# Altium schematic symbol library LED - Indication - Discrete 0603.SchLib: 32 symbols
Pins are listed as number, name and electrical type; pins without a type are passive.

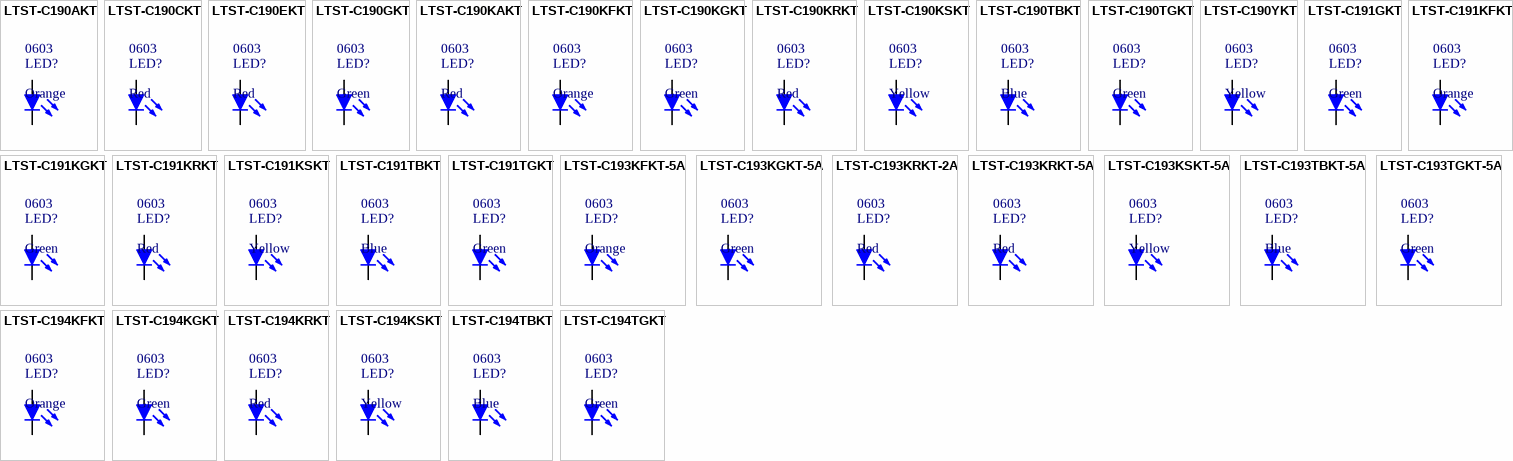
[diagram p0: symbols LTST-C190AKT to LTST-C194TGKT]

## LTST-C190AKT
designator LED?, comment Orange  Package: 0603
LED ORANGE CLEAR 0603 SMD; Manufacturer: Lite-On Inc.; Manufacturer Part Number: LTST-C190AKT; Lens Color: Colorless; Millicandela Rating: 2mcd; Lens Style/Size: Rectangle with Flat Top, 1.10mm x 0.80mm; Voltage - Forward (Vf) (Typ): 2.1V; Current - Test: 10mA; Viewing Angle: 130°; Wavelength - Dominant: 602nm; Wavelength - Peak: 610nm; Supplier 1: Digi-Key; Supplier Part Number 1: 160-1180-1-ND; RoHS: RoHS Compliant; Category: Optoelectronics; Stock 1: 66792; Pricing 1: 1=0.29, 10=0.211, 25=0.1556, 100=0.1111, 250=0.07556, 500=0.06666, 1000=0.05222 (USD); Packaging: Cut Tape (CT); Part Status: Active; Color: Orange; Lens Transparency: Clear; Mounting Type: Surface Mount; Features: -; Supplier Device Package: -; Size / Dimension: 1.60mm L x 0.80mm W; Height (Max): 0.80mm; ComponentLink1URL: http://media.digikey.com/pdf/Data%20Sheets/Lite-On%20PDFs/LTST-C190AKT.pdf; ComponentLink1Description: http://media.digikey.com/pdf/Data%20Sheets/Lite-On%20PDFs/LTST-C190AKT.pdf
footprint Led 0603 - orange (Led SMD 0603)
pins: 1 A, 2 K

## LTST-C190CKT
designator LED?, comment Red  Package: 0603
LED RED CLEAR 0603 SMD; Manufacturer: Lite-On Inc.; Manufacturer Part Number: LTST-C190CKT; Lens Color: Colorless; Millicandela Rating: 10mcd; Lens Style/Size: Rectangle with Flat Top, 1.10mm x 0.80mm; Voltage - Forward (Vf) (Typ): 1.8V; Current - Test: 10mA; Viewing Angle: 130°; Wavelength - Dominant: 638nm; Wavelength - Peak: 660nm; Supplier 1: Digi-Key; Supplier Part Number 1: 160-1181-1-ND; RoHS: RoHS Compliant; Category: Optoelectronics; Stock 1: 897957; Pricing 1: 1=0.33, 10=0.239, 25=0.1764, 100=0.126, 250=0.08564, 500=0.07558, 1000=0.0592 (USD); Packaging: Cut Tape (CT); Part Status: Active; Color: Red; Lens Transparency: Clear; Mounting Type: Surface Mount; Features: -; Supplier Device Package: -; Size / Dimension: 1.60mm L x 0.80mm W; Height (Max): 0.80mm; ComponentLink1URL: http://media.digikey.com/pdf/Data%20Sheets/Lite-On%20PDFs/LTST-C190CKT.pdf; ComponentLink1Description: http://media.digikey.com/pdf/Data%20Sheets/Lite-On%20PDFs/LTST-C190CKT.pdf
footprint Led 0603 - red (Led SMD 0603)
pins: 1 A, 2 K

## LTST-C190EKT
designator LED?, comment Red  Package: 0603
LED RED CLEAR 0603 SMD; Manufacturer: Lite-On Inc.; Manufacturer Part Number: LTST-C190EKT; Lens Color: Colorless; Millicandela Rating: 2mcd; Lens Style/Size: Rectangle with Flat Top, 1.10mm x 0.80mm; Voltage - Forward (Vf) (Typ): 2V; Current - Test: 10mA; Viewing Angle: 130°; Wavelength - Dominant: 621nm; Wavelength - Peak: 630nm; Supplier 1: Digi-Key; Supplier Part Number 1: 160-1182-1-ND; RoHS: RoHS Compliant; Category: Optoelectronics; Stock 1: 73458; Pricing 1: 1=0.29, 10=0.211, 25=0.1556, 100=0.1111, 250=0.07556, 500=0.06666, 1000=0.05222 (USD); Packaging: Cut Tape (CT); Part Status: Active; Color: Red; Lens Transparency: Clear; Mounting Type: Surface Mount; Features: -; Supplier Device Package: -; Size / Dimension: 1.60mm L x 0.80mm W; Height (Max): 0.80mm; ComponentLink1URL: http://media.digikey.com/pdf/Data%20Sheets/Lite-On%20PDFs/LTST-C190EKT.pdf; ComponentLink1Description: http://media.digikey.com/pdf/Data%20Sheets/Lite-On%20PDFs/LTST-C190EKT.pdf
footprint Led 0603 - red (Led SMD 0603)
pins: 1 A, 2 K

## LTST-C190GKT
designator LED?, comment Green  Package: 0603
LED GREEN CLEAR 0603 SMD; Manufacturer: Lite-On Inc.; Manufacturer Part Number: LTST-C190GKT; Lens Color: Colorless; Millicandela Rating: 6mcd; Lens Style/Size: Rectangle with Flat Top, 1.10mm x 0.80mm; Voltage - Forward (Vf) (Typ): 2.1V; Current - Test: 10mA; Viewing Angle: 130°; Wavelength - Dominant: 569nm; Wavelength - Peak: 565nm; Supplier 1: Digi-Key; Supplier Part Number 1: 160-1183-1-ND; RoHS: RoHS Compliant; Category: Optoelectronics; Stock 1: 775799; Pricing 1: 1=0.27, 10=0.196, 25=0.1448, 100=0.1034, 250=0.07032, 500=0.06204, 1000=0.0486 (USD); Packaging: Cut Tape (CT); Part Status: Active; Color: Green; Lens Transparency: Clear; Mounting Type: Surface Mount; Features: -; Supplier Device Package: -; Size / Dimension: 1.60mm L x 0.80mm W; Height (Max): 0.80mm; ComponentLink1URL: http://media.digikey.com/pdf/Data%20Sheets/Lite-On%20PDFs/LTST-C190GKT.pdf; ComponentLink1Description: http://media.digikey.com/pdf/Data%20Sheets/Lite-On%20PDFs/LTST-C190GKT.pdf
footprint Led 0603 - green (Led SMD 0603)
pins: 1 A, 2 K

## LTST-C190KAKT
designator LED?, comment Red  Package: 0603
LED RED CLEAR 0603 SMD; Manufacturer: Lite-On Inc.; Manufacturer Part Number: LTST-C190KAKT; Lens Color: Colorless; Millicandela Rating: 80mcd; Lens Style/Size: Rectangle with Flat Top, 1.06mm x 0.80mm; Voltage - Forward (Vf) (Typ): 2V; Current - Test: 20mA; Viewing Angle: 130°; Wavelength - Dominant: 615nm; Wavelength - Peak: 621nm; Supplier 1: Digi-Key; Supplier Part Number 1: 160-1433-1-ND; RoHS: RoHS Compliant; Category: Optoelectronics; Stock 1: 46405; Pricing 1: 1=0.41, 10=0.296, 25=0.2268, 100=0.148, 250=0.10852, 500=0.0921, 1000=0.07565 (USD); Packaging: Cut Tape (CT); Part Status: Active; Color: Red; Lens Transparency: Clear; Mounting Type: Surface Mount; Features: -; Supplier Device Package: Chip LED; Size / Dimension: 1.60mm L x 0.80mm W; Height (Max): 0.80mm; ComponentLink1URL: http://media.digikey.com/pdf/Data%20Sheets/Lite-On%20PDFs/LTST-C150,170,190KxKT.pdf; ComponentLink1Description: http://media.digikey.com/pdf/Data%20Sheets/Lite-On%20PDFs/LTST-C150,170,190KxKT.pdf
footprint Led 0603 - red (Led SMD 0603)
pins: 1 A, 2 K

## LTST-C190KFKT
designator LED?, comment Orange  Package: 0603
LED ORANGE CLEAR 0603 SMD; Manufacturer: Lite-On Inc.; Manufacturer Part Number: LTST-C190KFKT; Lens Color: Colorless; Millicandela Rating: 90mcd; Lens Style/Size: Rectangle with Flat Top, 1.10mm x 0.80mm; Voltage - Forward (Vf) (Typ): 2V; Current - Test: 20mA; Viewing Angle: 130°; Wavelength - Dominant: 605nm; Wavelength - Peak: 611nm; Supplier 1: Digi-Key; Supplier Part Number 1: 160-1434-1-ND; RoHS: RoHS Compliant; Category: Optoelectronics; Stock 1: 140692; Pricing 1: 1=0.25, 10=0.183, 25=0.1348, 100=0.0963, 250=0.06544, 500=0.05776, 1000=0.04524 (USD); Packaging: Cut Tape (CT); Part Status: Active; Color: Orange; Lens Transparency: Clear; Mounting Type: Surface Mount; Features: -; Size / Dimension: 1.60mm L x 0.80mm W; Height (Max): 0.80mm; ComponentLink1URL: http://optoelectronics.liteon.com/upload/download/DS-22-99-0186/S_110_LTST-C190KFKT.pdf; ComponentLink1Description: http://optoelectronics.liteon.com/upload/download/DS-22-99-0186/S_110_LTST-C190KFKT.pdf
footprint Led 0603 - orange (Led SMD 0603)
pins: 1 A, 2 K

## LTST-C190KGKT
designator LED?, comment Green  Package: 0603
LED GREEN CLEAR 0603 SMD; Manufacturer: Lite-On Inc.; Manufacturer Part Number: LTST-C190KGKT; Lens Color: Colorless; Millicandela Rating: 35mcd; Lens Style/Size: Rectangle with Flat Top, 1.10mm x 0.80mm; Voltage - Forward (Vf) (Typ): 2V; Current - Test: 20mA; Viewing Angle: 130°; Wavelength - Dominant: 571nm; Wavelength - Peak: 574nm; Supplier 1: Digi-Key; Supplier Part Number 1: 160-1435-1-ND; RoHS: RoHS Compliant; Category: Optoelectronics; Stock 1: 1137633; Pricing 1: 1=0.27, 10=0.196, 25=0.1448, 100=0.1034, 250=0.07032, 500=0.06204, 1000=0.0486 (USD); Packaging: Cut Tape (CT); Part Status: Active; Color: Green; Lens Transparency: Clear; Mounting Type: Surface Mount; Features: -; Size / Dimension: 1.60mm L x 0.80mm W; Height (Max): 0.80mm; ComponentLink1URL: http://optoelectronics.liteon.com/upload/download/DS22-2000-074/S_110_LTST-C190KGKT.pdf; ComponentLink1Description: http://optoelectronics.liteon.com/upload/download/DS22-2000-074/S_110_LTST-C190KGKT.pdf
footprint Led 0603 - green (Led SMD 0603)
pins: 1 A, 2 K

## LTST-C190KRKT
designator LED?, comment Red  Package: 0603
LED RED CLEAR 0603 SMD; Manufacturer: Lite-On Inc.; Manufacturer Part Number: LTST-C190KRKT; Lens Color: Colorless; Millicandela Rating: 99mcd; Lens Style/Size: Rectangle with Flat Top, 1.10mm x 0.80mm; Voltage - Forward (Vf) (Typ): 2V; Current - Test: 20mA; Viewing Angle: 130°; Wavelength - Dominant: 631nm; Wavelength - Peak: 639nm; Supplier 1: Digi-Key; Supplier Part Number 1: 160-1436-1-ND; RoHS: RoHS Compliant; Category: Optoelectronics; Stock 1: 498710; Pricing 1: 1=0.27, 10=0.196, 25=0.1448, 100=0.1034, 250=0.07032, 500=0.06204, 1000=0.0486 (USD); Packaging: Cut Tape (CT); Part Status: Active; Color: Red; Lens Transparency: Clear; Mounting Type: Surface Mount; Features: -; Size / Dimension: 1.60mm L x 0.80mm W; Height (Max): 0.80mm; ComponentLink1URL: http://optoelectronics.liteon.com/upload/download/DS-22-99-0151/S_110_LTST-C190KRKT.pdf; ComponentLink1Description: http://optoelectronics.liteon.com/upload/download/DS-22-99-0151/S_110_LTST-C190KRKT.pdf
footprint Led 0603 - red (Led SMD 0603)
pins: 1 A, 2 K

## LTST-C190KSKT
designator LED?, comment Yellow  Package: 0603
LED YELLOW CLEAR 0603 SMD; Manufacturer: Lite-On Inc.; Manufacturer Part Number: LTST-C190KSKT; Lens Color: Colorless; Millicandela Rating: 104mcd; Lens Style/Size: Rectangle with Flat Top, 1.10mm x 0.80mm; Voltage - Forward (Vf) (Typ): 2.1V; Current - Test: 20mA; Viewing Angle: 130°; Wavelength - Dominant: 591nm; Wavelength - Peak: 588nm; Supplier 1: Digi-Key; Supplier Part Number 1: 160-1437-1-ND; RoHS: RoHS Compliant; Category: Optoelectronics; Stock 1: 231453; Pricing 1: 1=0.29, 10=0.211, 25=0.1556, 100=0.1111, 250=0.07556, 500=0.06666, 1000=0.05222 (USD); Packaging: Cut Tape (CT); Part Status: Active; Color: Yellow; Lens Transparency: Clear; Mounting Type: Surface Mount; Features: -; Size / Dimension: 1.60mm L x 0.80mm W; Height (Max): 0.80mm; ComponentLink1URL: http://optoelectronics.liteon.com/upload/download/DS-22-99-0189/S_110_LTST-C190KSKT.pdf; ComponentLink1Description: http://optoelectronics.liteon.com/upload/download/DS-22-99-0189/S_110_LTST-C190KSKT.pdf
footprint Led 0603 - yellow (Led SMD 0603)
pins: 1 A, 2 K

## LTST-C190TBKT
designator LED?, comment Blue  Package: 0603
LED BLUE CLEAR 0603 SMD; Manufacturer: Lite-On Inc.; Manufacturer Part Number: LTST-C190TBKT; Lens Color: Colorless; Millicandela Rating: 104mcd; Lens Style/Size: Rectangle with Flat Top, 1.10mm x 0.80mm; Voltage - Forward (Vf) (Typ): 3.3V; Current - Test: 20mA; Viewing Angle: 130°; Wavelength - Dominant: 470nm; Wavelength - Peak: 468nm; Supplier 1: Digi-Key; Supplier Part Number 1: 160-1646-1-ND; RoHS: RoHS Compliant; Category: Optoelectronics; Stock 1: 280970; Pricing 1: 1=0.54, 10=0.392, 25=0.3004, 100=0.196, 250=0.14376, 500=0.12196, 1000=0.10019 (USD); Packaging: Cut Tape (CT); Part Status: Active; Lens Transparency: Clear; Mounting Type: Surface Mount; Features: -; Supplier Device Package: Chip LED; Size / Dimension: 1.60mm L x 0.80mm W; Height (Max): 0.90mm; ComponentLink1URL: http://optoelectronics.liteon.com/upload/download/DS-22-99-0224/S_110_LTST-C190TBKT(0630).pdf; ComponentLink1Description: http://optoelectronics.liteon.com/upload/download/DS-22-99-0224/S_110_LTST-C190TBKT(0630).pdf; Color: Blue
footprint Led 0603 - blue (Led SMD 0603)
pins: 1 A, 2 K

## LTST-C190TGKT
designator LED?, comment Green  Package: 0603
LED GREEN CLEAR 0603 SMD; Manufacturer: Lite-On Inc.; Manufacturer Part Number: LTST-C190TGKT; Lens Color: Colorless; Millicandela Rating: 260.5mcd; Lens Style/Size: Rectangle with Flat Top, 1.10mm x 0.80mm; Voltage - Forward (Vf) (Typ): 3.2V; Current - Test: 20mA; Viewing Angle: 130°; Wavelength - Dominant: 525nm; Wavelength - Peak: 530nm; Supplier 1: Digi-Key; Supplier Part Number 1: 160-2019-1-ND; RoHS: RoHS Compliant; Category: Optoelectronics; Stock 1: 21908; Pricing 1: 1=0.6, 10=0.436, 25=0.3556, 100=0.2844, 250=0.23996, 500=0.20442, 1000=0.15998 (USD); Packaging: Cut Tape (CT); Part Status: Active; Color: Green; Lens Transparency: Clear; Mounting Type: Surface Mount; Features: -; Supplier Device Package: -; Size / Dimension: 1.60mm L x 0.80mm W; Height (Max): 0.90mm; ComponentLink1URL: http://optoelectronics.liteon.com/upload/download/DS22-2000-032/S_110_LTST-C190TGKT.pdf; ComponentLink1Description: http://optoelectronics.liteon.com/upload/download/DS22-2000-032/S_110_LTST-C190TGKT.pdf
footprint Led 0603 - green (Led SMD 0603)
pins: 1 A, 2 K

## LTST-C190YKT
designator LED?, comment Yellow  Package: 0603
LED YELLOW CLEAR 0603 SMD; Manufacturer: Lite-On Inc.; Manufacturer Part Number: LTST-C190YKT; Lens Color: Colorless; Millicandela Rating: 6mcd; Lens Style/Size: Rectangle with Flat Top, 1.06mm x 0.80mm; Voltage - Forward (Vf) (Typ): 2.1V; Current - Test: 10mA; Viewing Angle: 130°; Wavelength - Dominant: 588nm; Wavelength - Peak: 585nm; Supplier 1: Digi-Key; Supplier Part Number 1: 160-1184-1-ND; RoHS: RoHS Compliant; Category: Optoelectronics; Stock 1: 70346; Pricing 1: 1=0.29, 10=0.211, 25=0.1556, 100=0.1111, 250=0.07556, 500=0.06666, 1000=0.05222 (USD); Packaging: Cut Tape (CT); Part Status: Active; Color: Yellow; Lens Transparency: Clear; Mounting Type: Surface Mount; Features: -; Supplier Device Package: -; Size / Dimension: 1.60mm L x 0.80mm W; Height (Max): 0.80mm; ComponentLink1URL: http://media.digikey.com/pdf/Data%20Sheets/Lite-On%20PDFs/LTST-C190YKT.pdf; ComponentLink1Description: http://media.digikey.com/pdf/Data%20Sheets/Lite-On%20PDFs/LTST-C190YKT.pdf
footprint Led 0603 - yellow (Led SMD 0603)
pins: 1 A, 2 K

## LTST-C191GKT
designator LED?, comment Green  Package: 0603
LED GREEN CLEAR 0603 SMD; Manufacturer: Lite-On Inc.; Manufacturer Part Number: LTST-C191GKT; Lens Color: Colorless; Millicandela Rating: 12mcd; Lens Style/Size: Rectangle with Flat Top, 1.10mm x 0.80mm; Voltage - Forward (Vf) (Typ): 2.1V; Current - Test: 20mA; Viewing Angle: 130°; Wavelength - Dominant: 569nm; Wavelength - Peak: 565nm; Supplier 1: Digi-Key; Supplier Part Number 1: 160-1443-1-ND; RoHS: RoHS Compliant; Category: Optoelectronics; Stock 1: 104656; Pricing 1: 1=0.35, 10=0.253, 25=0.1864, 100=0.1331, 250=0.09052, 500=0.07986, 1000=0.06256, 2500=0.06123 (USD); Packaging: Cut Tape (CT); Part Status: Active; Color: Green; Lens Transparency: Clear; Mounting Type: Surface Mount; Features: -; Supplier Device Package: Chip LED; Size / Dimension: 1.60mm L x 0.80mm W; Height (Max): 0.55mm; ComponentLink1URL: http://media.digikey.com/pdf/Data%20Sheets/Lite-On%20PDFs/LTST-C191GKT.pdf; ComponentLink1Description: http://media.digikey.com/pdf/Data%20Sheets/Lite-On%20PDFs/LTST-C191GKT.pdf
footprint Led 0603 - green (Led SMD 0603)
pins: 1 A, 2 K

## LTST-C191KFKT
designator LED?, comment Orange  Package: 0603
LED ORANGE CLEAR 0603 SMD; Manufacturer: Lite-On Inc.; Manufacturer Part Number: LTST-C191KFKT; Lens Color: Colorless; Millicandela Rating: 90mcd; Lens Style/Size: Rectangle with Flat Top, 1.10mm x 0.80mm; Voltage - Forward (Vf) (Typ): 2V; Current - Test: 20mA; Viewing Angle: 130°; Wavelength - Dominant: 605nm; Wavelength - Peak: 611nm; Supplier 1: Digi-Key; Supplier Part Number 1: 160-1445-1-ND; RoHS: RoHS Compliant; Category: Optoelectronics; Stock 1: 161318; Pricing 1: 1=0.27, 10=0.196, 25=0.1448, 100=0.1034, 250=0.07032, 500=0.06204, 1000=0.0486, 2500=0.04756 (USD); Packaging: Cut Tape (CT); Part Status: Active; Color: Orange; Lens Transparency: Clear; Mounting Type: Surface Mount; Features: -; Size / Dimension: 1.60mm L x 0.80mm W; Height (Max): 0.55mm; ComponentLink1URL: http://optoelectronics.liteon.com/upload/download/DS22-2000-222/S_110_LTST-C191KFKT.pdf; ComponentLink1Description: http://optoelectronics.liteon.com/upload/download/DS22-2000-222/S_110_LTST-C191KFKT.pdf
footprint Led 0603 - orange (Led SMD 0603)
pins: 1 A, 2 K

## LTST-C191KGKT
designator LED?, comment Green  Package: 0603
LED GREEN CLEAR 0603 SMD; Manufacturer: Lite-On Inc.; Manufacturer Part Number: LTST-C191KGKT; Lens Color: Colorless; Millicandela Rating: 35mcd; Lens Style/Size: Rectangle with Flat Top, 1.10mm x 0.80mm; Voltage - Forward (Vf) (Typ): 2V; Current - Test: 20mA; Viewing Angle: 130°; Wavelength - Dominant: 571nm; Wavelength - Peak: 574nm; Supplier 1: Digi-Key; Supplier Part Number 1: 160-1446-1-ND; RoHS: RoHS Compliant; Category: Optoelectronics; Stock 1: 1234324; Pricing 1: 1=0.29, 10=0.211, 25=0.1556, 100=0.1111, 250=0.07556, 500=0.06666, 1000=0.05222, 2500=0.05111 (USD); Packaging: Cut Tape (CT); Part Status: Active; Color: Green; Lens Transparency: Clear; Mounting Type: Surface Mount; Features: -; Size / Dimension: 1.60mm L x 0.80mm W; Height (Max): 0.55mm; ComponentLink1URL: http://optoelectronics.liteon.com/upload/download/DS22-2000-228/S_110_LTST-C191KGKT.pdf; ComponentLink1Description: http://optoelectronics.liteon.com/upload/download/DS22-2000-228/S_110_LTST-C191KGKT.pdf
footprint Led 0603 - green (Led SMD 0603)
pins: 1 A, 2 K

## LTST-C191KRKT
designator LED?, comment Red  Package: 0603
LED RED CLEAR 0603 SMD; Manufacturer: Lite-On Inc.; Manufacturer Part Number: LTST-C191KRKT; Lens Color: Colorless; Millicandela Rating: 54mcd; Lens Style/Size: Rectangle with Flat Top, 1.10mm x 0.80mm; Voltage - Forward (Vf) (Typ): 2V; Current - Test: 20mA; Viewing Angle: 130°; Wavelength - Dominant: 631nm; Wavelength - Peak: 639nm; Supplier 1: Digi-Key; Supplier Part Number 1: 160-1447-1-ND; RoHS: RoHS Compliant; Category: Optoelectronics; Stock 1: 549727; Pricing 1: 1=0.29, 10=0.211, 25=0.1556, 100=0.1111, 250=0.07556, 500=0.06666, 1000=0.05222, 2500=0.05111 (USD); Packaging: Cut Tape (CT); Part Status: Active; Color: Red; Lens Transparency: Clear; Mounting Type: Surface Mount; Features: -; Size / Dimension: 1.60mm L x 0.80mm W; Height (Max): 0.65mm; ComponentLink1URL: http://optoelectronics.liteon.com/upload/download/DS22-2000-223/S_110_LTST-C191KRKT.pdf; ComponentLink1Description: http://optoelectronics.liteon.com/upload/download/DS22-2000-223/S_110_LTST-C191KRKT.pdf
footprint Led 0603 - red (Led SMD 0603)
pins: 1 A, 2 K

## LTST-C191KSKT
designator LED?, comment Yellow  Package: 0603
LED YELLOW CLEAR 0603 SMD; Manufacturer: Lite-On Inc.; Manufacturer Part Number: LTST-C191KSKT; Lens Color: Colorless; Millicandela Rating: 104mcd; Lens Style/Size: Rectangle with Flat Top, 1.10mm x 0.80mm; Voltage - Forward (Vf) (Typ): 2.1V; Current - Test: 20mA; Viewing Angle: 130°; Wavelength - Dominant: 591nm; Wavelength - Peak: 588nm; Supplier 1: Digi-Key; Supplier Part Number 1: 160-1448-1-ND; RoHS: RoHS Compliant; Category: Optoelectronics; Stock 1: 519870; Pricing 1: 1=0.31, 10=0.225, 25=0.1656, 100=0.1183, 250=0.0804, 500=0.07096, 1000=0.05558, 2500=0.0544 (USD); Packaging: Cut Tape (CT); Part Status: Active; Color: Yellow; Lens Transparency: Clear; Mounting Type: Surface Mount; Features: -; Size / Dimension: 1.60mm L x 0.80mm W; Height (Max): 0.55mm; ComponentLink1URL: http://optoelectronics.liteon.com/upload/download/DS22-2000-224/S_110_LTST-C191KSKT.pdf; ComponentLink1Description: http://optoelectronics.liteon.com/upload/download/DS22-2000-224/S_110_LTST-C191KSKT.pdf
footprint Led 0603 - yellow (Led SMD 0603)
pins: 1 A, 2 K

## LTST-C191TBKT
designator LED?, comment Blue  Package: 0603
LED BLUE CLEAR 0603 SMD; Manufacturer: Lite-On Inc.; Manufacturer Part Number: LTST-C191TBKT; Lens Color: Colorless; Millicandela Rating: 104mcd; Lens Style/Size: Rectangle with Flat Top, 1.10mm x 0.80mm; Voltage - Forward (Vf) (Typ): 3.3V; Current - Test: 20mA; Viewing Angle: 130°; Wavelength - Dominant: 470nm; Wavelength - Peak: 468nm; Supplier 1: Digi-Key; Supplier Part Number 1: 160-1647-1-ND; RoHS: RoHS Compliant; Category: Optoelectronics; Stock 1: 573; Pricing 1: 1=0.52, 10=0.376, 25=0.2884, 100=0.1881, 250=0.13796, 500=0.11704, 1000=0.09614, 2500=0.0836 (USD); Packaging: Cut Tape (CT); Part Status: Active; Color: Blue; Lens Transparency: Clear; Mounting Type: Surface Mount; Features: -; Supplier Device Package: Chip LED; Size / Dimension: 1.60mm L x 0.80mm W; Height (Max): 0.65mm; ComponentLink1URL: http://optoelectronics.liteon.com/upload/download/DS22-2000-230/S_110_LTST-C191TBKT.pdf; ComponentLink1Description: http://optoelectronics.liteon.com/upload/download/DS22-2000-230/S_110_LTST-C191TBKT.pdf
footprint Led 0603 - blue (Led SMD 0603)
pins: 1 A, 2 K

## LTST-C191TGKT
designator LED?, comment Green  Package: 0603
LED GREEN CLEAR 0603 SMD; Manufacturer: Lite-On Inc.; Manufacturer Part Number: LTST-C191TGKT; Lens Color: Colorless; Millicandela Rating: 260.5mcd; Lens Style/Size: Rectangle with Flat Top, 1.10mm x 0.80mm; Voltage - Forward (Vf) (Typ): 3.2V; Current - Test: 20mA; Viewing Angle: 130°; Wavelength - Dominant: 525nm; Wavelength - Peak: 530nm; Supplier 1: Digi-Key; Supplier Part Number 1: 160-1888-1-ND; RoHS: RoHS Compliant; Category: Optoelectronics; Stock 1: 67746; Pricing 1: 1=0.6, 10=0.436, 25=0.3556, 100=0.2844, 250=0.23996, 500=0.20442, 1000=0.15998, 2500=0.14665 (USD); Packaging: Cut Tape (CT); Part Status: Active; Color: Green; Lens Transparency: Clear; Mounting Type: Surface Mount; Features: -; Supplier Device Package: Chip LED; Size / Dimension: 1.60mm L x 0.80mm W; Height (Max): 0.65mm; ComponentLink1URL: http://optoelectronics.liteon.com/upload/download/DS22-2000-300/S_110_LTST-C191TGKT.pdf; ComponentLink1Description: http://optoelectronics.liteon.com/upload/download/DS22-2000-300/S_110_LTST-C191TGKT.pdf
footprint Led 0603 - green (Led SMD 0603)
pins: 1 A, 2 K

## LTST-C193KFKT-5A
designator LED?, comment Orange  Package: 0603
LED ORANGE CLEAR 0603 SMD; Manufacturer: Lite-On Inc.; Manufacturer Part Number: LTST-C193KFKT-5A; Lens Color: Colorless; Millicandela Rating: 28.1mcd; Lens Style/Size: Rectangle with Flat Top, 1.15mm x 0.80mm; Voltage - Forward (Vf) (Typ): 2V; Current - Test: 5mA; Viewing Angle: 130°; Wavelength - Dominant: 605nm; Wavelength - Peak: 611nm; Supplier 1: Digi-Key; Supplier Part Number 1: 160-1829-1-ND; RoHS: RoHS Compliant; Category: Optoelectronics; Stock 1: 21252; Pricing 1: 1=0.41, 10=0.296, 25=0.2268, 100=0.148, 250=0.10852, 500=0.0921, 1000=0.07565 (USD); Packaging: Cut Tape (CT); Part Status: Active; Color: Orange; Lens Transparency: Clear; Mounting Type: Surface Mount; Features: -; Supplier Device Package: Chip LED; Size / Dimension: 1.60mm L x 0.80mm W; Height (Max): 0.35mm; ComponentLink1URL: http://optoelectronics.liteon.com/upload/download/DS22-2005-086/S_110_LTST-C193KFKT-5A.pdf; ComponentLink1Description: http://optoelectronics.liteon.com/upload/download/DS22-2005-086/S_110_LTST-C193KFKT-5A.pdf
footprint Led 0603 - orange (Led SMD 0603)
pins: 1 A, 2 K

## LTST-C193KGKT-5A
designator LED?, comment Green  Package: 0603
LED GREEN CLEAR 0603 SMD; Manufacturer: Lite-On Inc.; Manufacturer Part Number: LTST-C193KGKT-5A; Lens Color: Colorless; Millicandela Rating: 16.25mcd; Lens Style/Size: Rectangle with Flat Top, 1.15mm x 0.80mm; Voltage - Forward (Vf) (Typ): 2V; Current - Test: 5mA; Viewing Angle: 130°; Wavelength - Dominant: 572nm; Wavelength - Peak: 574nm; Supplier 1: Digi-Key; Supplier Part Number 1: 160-1828-1-ND; RoHS: RoHS Compliant; Category: Optoelectronics; Stock 1: 152539; Pricing 1: 1=0.41, 10=0.296, 25=0.2268, 100=0.148, 250=0.10852, 500=0.0921, 1000=0.07565 (USD); Packaging: Cut Tape (CT); Part Status: Active; Color: Green; Lens Transparency: Clear; Mounting Type: Surface Mount; Features: -; Supplier Device Package: Chip LED; Size / Dimension: 1.60mm L x 0.80mm W; Height (Max): 0.45mm; ComponentLink1URL: http://optoelectronics.liteon.com/upload/download/DS22-2007-0094/S_110_LTST-C193KGKT-5A.pdf; ComponentLink1Description: http://optoelectronics.liteon.com/upload/download/DS22-2007-0094/S_110_LTST-C193KGKT-5A.pdf
footprint Led 0603 - green (Led SMD 0603)
pins: 1 A, 2 K

## LTST-C193KRKT-2A
designator LED?, comment Red  Package: 0603
LED RED CLEAR 0603 SMD; Manufacturer: Lite-On Inc.; Manufacturer Part Number: LTST-C193KRKT-2A; Lens Color: Colorless; Millicandela Rating: 6.5mcd; Lens Style/Size: Rectangle with Flat Top, 1.15mm x 0.80mm; Voltage - Forward (Vf) (Typ): 1.9V; Current - Test: 2mA; Viewing Angle: 130°; Wavelength - Dominant: 629nm; Wavelength - Peak: 639nm; Supplier 1: Digi-Key; Supplier Part Number 1: 160-1909-1-ND; RoHS: RoHS Compliant; Category: Optoelectronics; Stock 1: 12161; Pricing 1: 1=0.51, 10=0.366, 25=0.2808, 100=0.1832, 250=0.13432, 500=0.11396, 1000=0.09361 (USD); Packaging: Cut Tape (CT); Part Status: Active; Color: Red; Lens Transparency: Clear; Mounting Type: Surface Mount; Features: -; Supplier Device Package: Chip LED; Size / Dimension: 1.60mm L x 0.80mm W; Height (Max): 0.35mm; ComponentLink1URL: http://media.digikey.com/pdf/Data%20Sheets/Lite-On%20PDFs/LTST-C193KRKT-2A.pdf; ComponentLink1Description: http://media.digikey.com/pdf/Data%20Sheets/Lite-On%20PDFs/LTST-C193KRKT-2A.pdf
footprint Led 0603 - red (Led SMD 0603)
pins: 1 A, 2 K

## LTST-C193KRKT-5A
designator LED?, comment Red  Package: 0603
LED RED CLEAR 0603 SMD; Manufacturer: Lite-On Inc.; Manufacturer Part Number: LTST-C193KRKT-5A; Lens Color: Colorless; Millicandela Rating: 26.05mcd; Lens Style/Size: Rectangle with Flat Top, 1.15mm x 0.80mm; Voltage - Forward (Vf) (Typ): 2V; Current - Test: 5mA; Viewing Angle: 130°; Wavelength - Dominant: 631nm; Wavelength - Peak: 639nm; Supplier 1: Digi-Key; Supplier Part Number 1: 160-1830-1-ND; RoHS: RoHS Compliant; Category: Optoelectronics; Stock 1: 88243; Pricing 1: 1=0.41, 10=0.296, 25=0.2268, 100=0.148, 250=0.10852, 500=0.0921, 1000=0.07565 (USD); Packaging: Cut Tape (CT); Part Status: Active; Color: Red; Lens Transparency: Clear; Mounting Type: Surface Mount; Features: -; Supplier Device Package: Chip LED; Size / Dimension: 1.60mm L x 0.80mm W; Height (Max): 0.45mm; ComponentLink1URL: http://optoelectronics.liteon.com/upload/download/DS22-2005-077/S_110_LTST-C193KRKT-5A.pdf; ComponentLink1Description: http://optoelectronics.liteon.com/upload/download/DS22-2005-077/S_110_LTST-C193KRKT-5A.pdf
footprint Led 0603 - red (Led SMD 0603)
pins: 1 A, 2 K

## LTST-C193KSKT-5A
designator LED?, comment Yellow  Package: 0603
LED YELLOW CLEAR 0603 SMD; Manufacturer: Lite-On Inc.; Manufacturer Part Number: LTST-C193KSKT-5A; Lens Color: Colorless; Millicandela Rating: 26.05mcd; Lens Style/Size: Rectangle with Flat Top, 1.15mm x 0.80mm; Voltage - Forward (Vf) (Typ): 2V; Current - Test: 5mA; Viewing Angle: 130°; Wavelength - Dominant: 591nm; Supplier 1: Digi-Key; Supplier Part Number 1: 160-1831-1-ND; RoHS: RoHS Compliant; Category: Optoelectronics; Stock 1: 43558; Pricing 1: 1=0.41, 10=0.296, 25=0.2268, 100=0.148, 250=0.10852, 500=0.0921, 1000=0.07565 (USD); Packaging: Cut Tape (CT); Part Status: Active; Color: Yellow; Lens Transparency: Clear; Mounting Type: Surface Mount; Wavelength - Peak: 591nm; Features: -; Supplier Device Package: Chip LED; Size / Dimension: 1.60mm L x 0.80mm W; Height (Max): 0.45mm; ComponentLink1URL: http://optoelectronics.liteon.com/upload/download/DS22-2004-141/S_110_LTST-C193KSKT-5A.pdf; ComponentLink1Description: http://optoelectronics.liteon.com/upload/download/DS22-2004-141/S_110_LTST-C193KSKT-5A.pdf
footprint Led 0603 - yellow (Led SMD 0603)
pins: 1 A, 2 K

## LTST-C193TBKT-5A
designator LED?, comment Blue  Package: 0603
LED BLUE CLEAR 0603 SMD; Manufacturer: Lite-On Inc.; Manufacturer Part Number: LTST-C193TBKT-5A; Lens Color: Colorless; Millicandela Rating: 15mcd; Lens Style/Size: Rectangle with Flat Top, 1.15mm x 0.80mm; Voltage - Forward (Vf) (Typ): 2.8V; Current - Test: 5mA; Viewing Angle: 130°; Wavelength - Dominant: 470nm; Wavelength - Peak: 468nm; Supplier 1: Digi-Key; Supplier Part Number 1: 160-1827-1-ND; RoHS: RoHS Compliant; Category: Optoelectronics; Stock 1: 636289; Pricing 1: 1=0.47, 10=0.336, 25=0.2572, 100=0.1678, 250=0.12304, 500=0.10442, 1000=0.08577 (USD); Packaging: Cut Tape (CT); Part Status: Active; Color: Blue; Lens Transparency: Clear; Mounting Type: Surface Mount; Features: -; Supplier Device Package: Chip LED; Size / Dimension: 1.60mm L x 0.80mm W; Height (Max): 0.45mm; ComponentLink1URL: http://optoelectronics.liteon.com/upload/download/DS22-2004-060/P_100_LTST-C193TBKT-5A.pdf; ComponentLink1Description: http://optoelectronics.liteon.com/upload/download/DS22-2004-060/P_100_LTST-C193TBKT-5A.pdf
footprint Led 0603 - blue (Led SMD 0603)
pins: 1 A, 2 K

## LTST-C193TGKT-5A
designator LED?, comment Green  Package: 0603
LED GREEN CLEAR 0603 SMD; Manufacturer: Lite-On Inc.; Manufacturer Part Number: LTST-C193TGKT-5A; Lens Color: Colorless; Millicandela Rating: 154mcd; Lens Style/Size: Rectangle with Flat Top, 1.15mm x 0.80mm; Voltage - Forward (Vf) (Typ): 2.8V; Current - Test: 5mA; Viewing Angle: 130°; Wavelength - Dominant: 528nm; Wavelength - Peak: 525nm; Supplier 1: Digi-Key; Supplier Part Number 1: 160-1832-1-ND; RoHS: RoHS Compliant; Category: Optoelectronics; Stock 1: 80659; Pricing 1: 1=0.51, 10=0.37, 25=0.302, 100=0.2415, 250=0.20376, 500=0.17356, 1000=0.13583 (USD); Packaging: Cut Tape (CT); Part Status: Active; Color: Green; Lens Transparency: Clear; Mounting Type: Surface Mount; Features: -; Supplier Device Package: Chip LED; Size / Dimension: 1.60mm L x 0.80mm W; Height (Max): 0.45mm; ComponentLink1URL: http://optoelectronics.liteon.com/upload/download/DS22-2004-186/P_100_LTST-C193TGKT-5A.pdf; ComponentLink1Description: http://optoelectronics.liteon.com/upload/download/DS22-2004-186/P_100_LTST-C193TGKT-5A.pdf
footprint Led 0603 - green (Led SMD 0603)
pins: 1 A, 2 K

## LTST-C194KFKT
designator LED?, comment Orange  Package: 0603
LED ORANGE CLEAR 0603 SMD; Manufacturer: Lite-On Inc.; Manufacturer Part Number: LTST-C194KFKT; Lens Color: Colorless; Millicandela Rating: 162.5mcd; Lens Style/Size: Rectangle with Flat Top, 1.15mm x 0.80mm; Voltage - Forward (Vf) (Typ): 2V; Current - Test: 20mA; Viewing Angle: 130°; Wavelength - Dominant: 605nm; Wavelength - Peak: 611nm; Supplier 1: Digi-Key; Supplier Part Number 1: 160-1833-1-ND; RoHS: RoHS Compliant; Category: Optoelectronics; Stock 1: 32905; Pricing 1: 1=0.41, 10=0.296, 25=0.2268, 100=0.148, 250=0.10852, 500=0.0921, 1000=0.07565 (USD); Packaging: Cut Tape (CT); Part Status: Active; Color: Orange; Lens Transparency: Clear; Mounting Type: Surface Mount; Features: -; Size / Dimension: 1.60mm L x 0.80mm W; Height (Max): 0.45mm; ComponentLink1URL: http://optoelectronics.liteon.com/upload/download/DS22-2010-0196/S_110_LTST-C194KFKT.pdf; ComponentLink1Description: http://optoelectronics.liteon.com/upload/download/DS22-2010-0196/S_110_LTST-C194KFKT.pdf
footprint Led 0603 - orange (Led SMD 0603)
pins: 1 A, 2 K

## LTST-C194KGKT
designator LED?, comment Green  Package: 0603
LED GREEN CLEAR 0603 SMD; Manufacturer: Lite-On Inc.; Manufacturer Part Number: LTST-C194KGKT; Lens Color: Colorless; Millicandela Rating: 65mcd; Lens Style/Size: Rectangle with Flat Top, 1.15mm x 0.80mm; Voltage - Forward (Vf) (Typ): 2.1V; Current - Test: 20mA; Viewing Angle: 130°; Wavelength - Dominant: 572nm; Wavelength - Peak: 574nm; Supplier 1: Digi-Key; Supplier Part Number 1: 160-1834-1-ND; RoHS: RoHS Compliant; Category: Optoelectronics; Stock 1: 34911; Pricing 1: 1=0.41, 10=0.296, 25=0.2268, 100=0.148, 250=0.10852, 500=0.0921, 1000=0.07565 (USD); Packaging: Cut Tape (CT); Part Status: Active; Color: Green; Lens Transparency: Clear; Mounting Type: Surface Mount; Features: -; Size / Dimension: 1.60mm L x 0.80mm W; Height (Max): 0.45mm; ComponentLink1URL: http://optoelectronics.liteon.com/upload/download/DS22-2010-0197/S_110_LTST-C194KGKT.pdf; ComponentLink1Description: http://optoelectronics.liteon.com/upload/download/DS22-2010-0197/S_110_LTST-C194KGKT.pdf
footprint Led 0603 - green (Led SMD 0603)
pins: 1 A, 2 K

## LTST-C194KRKT
designator LED?, comment Red  Package: 0603
LED RED CLEAR 0603 SMD; Manufacturer: Lite-On Inc.; Manufacturer Part Number: LTST-C194KRKT; Lens Color: Colorless; Millicandela Rating: 95.6mcd; Lens Style/Size: Rectangle with Flat Top, 1.15mm x 0.80mm; Voltage - Forward (Vf) (Typ): 2V; Current - Test: 20mA; Viewing Angle: 130°; Wavelength - Dominant: 631nm; Wavelength - Peak: 639nm; Supplier 1: Digi-Key; Supplier Part Number 1: 160-1835-1-ND; RoHS: RoHS Compliant; Category: Optoelectronics; Stock 1: 44539; Pricing 1: 1=0.41, 10=0.296, 25=0.2268, 100=0.148, 250=0.10852, 500=0.0921, 1000=0.07565 (USD); Packaging: Cut Tape (CT); Part Status: Active; Color: Red; Lens Transparency: Clear; Mounting Type: Surface Mount; Features: -; Size / Dimension: 1.60mm L x 0.80mm W; Height (Max): 0.45mm; ComponentLink1URL: http://optoelectronics.liteon.com/upload/download/DS22-2010-0195/S_110_LTST-C194KRKT.pdf; ComponentLink1Description: http://optoelectronics.liteon.com/upload/download/DS22-2010-0195/S_110_LTST-C194KRKT.pdf
footprint Led 0603 - red (Led SMD 0603)
pins: 1 A, 2 K

## LTST-C194KSKT
designator LED?, comment Yellow  Package: 0603
LED YELLOW CLEAR 0603 SMD; Manufacturer: Lite-On Inc.; Manufacturer Part Number: LTST-C194KSKT; Lens Color: Colorless; Millicandela Rating: 104mcd; Lens Style/Size: Rectangle with Flat Top, 1.15mm x 0.80mm; Voltage - Forward (Vf) (Typ): 2V; Current - Test: 20mA; Viewing Angle: 130°; Wavelength - Dominant: 592nm; Wavelength - Peak: 588nm; Supplier 1: Digi-Key; Supplier Part Number 1: 160-1836-1-ND; RoHS: RoHS Compliant; Category: Optoelectronics; Stock 1: 12944; Pricing 1: 1=0.41, 10=0.296, 25=0.2268, 100=0.148, 250=0.10852, 500=0.0921, 1000=0.07565 (USD); Packaging: Cut Tape (CT); Part Status: Active; Color: Yellow; Lens Transparency: Clear; Mounting Type: Surface Mount; Features: -; Size / Dimension: 1.60mm L x 0.80mm W; Height (Max): 0.45mm; ComponentLink1URL: http://optoelectronics.liteon.com/upload/download/DS22-2006-114/S_110_LTST-C194KSKT.pdf; ComponentLink1Description: http://optoelectronics.liteon.com/upload/download/DS22-2006-114/S_110_LTST-C194KSKT.pdf
footprint Led 0603 - yellow (Led SMD 0603)
pins: 1 A, 2 K

## LTST-C194TBKT
designator LED?, comment Blue  Package: 0603
LED BLUE CLEAR 0603 SMD; Manufacturer: Lite-On Inc.; Manufacturer Part Number: LTST-C194TBKT; Lens Color: Colorless; Millicandela Rating: 104mcd; Lens Style/Size: Rectangle with Flat Top, 1.15mm x 0.80mm; Voltage - Forward (Vf) (Typ): 3.3V; Current - Test: 20mA; Viewing Angle: 130°; Wavelength - Dominant: 468nm; Supplier 1: Digi-Key; Supplier Part Number 1: 160-1837-1-ND; RoHS: RoHS Compliant; Category: Optoelectronics; Stock 1: 101348; Pricing 1: 1=0.47, 10=0.336, 25=0.2572, 100=0.1678, 250=0.12304, 500=0.10442, 1000=0.08577 (USD); Packaging: Cut Tape (CT); Part Status: Active; Color: Blue; Lens Transparency: Clear; Mounting Type: Surface Mount; Wavelength - Peak: 468nm; Features: -; Size / Dimension: 1.60mm L x 0.80mm W; Height (Max): 0.45mm; ComponentLink1URL: http://optoelectronics.liteon.com/upload/download/DS22-2010-0025/S_110_LTST-C194TBKT.pdf; ComponentLink1Description: http://optoelectronics.liteon.com/upload/download/DS22-2010-0025/S_110_LTST-C194TBKT.pdf
footprint Led 0603 - blue (Led SMD 0603)
pins: 1 A, 2 K

## LTST-C194TGKT
designator LED?, comment Green  Package: 0603
LED GREEN CLEAR 0603 SMD; Manufacturer: Lite-On Inc.; Manufacturer Part Number: LTST-C194TGKT; Lens Color: Colorless; Millicandela Rating: 260.5mcd; Lens Style/Size: Rectangle with Flat Top, 1.15mm x 0.80mm; Voltage - Forward (Vf) (Typ): 3.2V; Current - Test: 20mA; Viewing Angle: 130°; Wavelength - Dominant: 525nm; Wavelength - Peak: 530nm; Supplier 1: Digi-Key; Supplier Part Number 1: 160-1838-1-ND; RoHS: RoHS Compliant; Category: Optoelectronics; Stock 1: 19301; Pricing 1: 1=0.51, 10=0.37, 25=0.302, 100=0.2415, 250=0.20376, 500=0.17356, 1000=0.13583 (USD); Packaging: Cut Tape (CT); Part Status: Active; Color: Green; Lens Transparency: Clear; Mounting Type: Surface Mount; Features: -; Size / Dimension: 1.60mm L x 0.80mm W; Height (Max): 0.45mm; ComponentLink1URL: http://optoelectronics.liteon.com/upload/download/DS22-2010-0023/S_110_LTST-C194TGKT.pdf; ComponentLink1Description: http://optoelectronics.liteon.com/upload/download/DS22-2010-0023/S_110_LTST-C194TGKT.pdf
footprint Led 0603 - green (Led SMD 0603)
pins: 1 A, 2 K